# EAGLE library part CY8C4245 (library juliano)
PSoC® Programmable System-on-Chip TM M8C Processor Speeds up to 24 MHz Source: http://www.cypress.com .. CY8C4245AXI-483
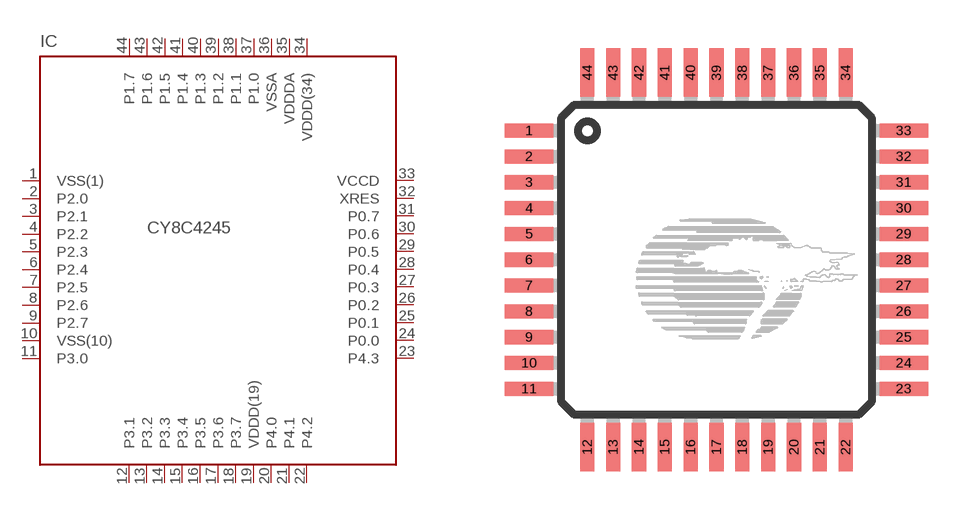
[diagram p1: symbol with the pads of TQFP44; footprint TQFP44]

Designator prefix IC

## CY8C4245T (OC_FARNELL: unknown; OC_NEWARK: unknown)  [TQFP44]
1  VSS(1)
2  P2.0
3  P2.1
4  P2.2  pwr
5  P2.3
6  P2.4
7  P2.5
8  P2.6  pwr
9  P2.7
10  VSS(10)
11  P3.0
12  P3.1
13  P3.2
14  P3.3
15  P3.4
16  P3.5
17  P3.6  pwr
18  P3.7
19  VDDD(19)
20  P4.0
21  P4.1
22  P4.2
23  P4.3
24  P0.0
25  P0.1
26  P0.2  in
27  P0.3
28  P0.4
29  P0.5
30  P0.6  pwr
31  P0.7
32  XRES
33  VCCD
34  VDDD(34)
35  VDDDA
36  VSSA
37  P1.0
38  P1.1
39  P1.2  pwr
40  P1.3
41  P1.4
42  P1.5
43  P1.6
44  P1.7

## Footprint TQFP44 (pad centres in mm)
44-Pin TQFP Source: http://www.cypress.com .. CY8C213452.pdf
smd 1.5 x 0.44: 1 -5.8,4; 2 -5.8,3.2; 3 -5.8,2.4; 4 -5.8,1.6; 5 -5.8,0.8; 6 -5.8,0; 7 -5.8,-0.8; 8 -5.8,-1.6; 9 -5.8,-2.4; 10 -5.8,-3.2; 11 -5.8,-4; 23 5.8,-4; 24 5.8,-3.2; 25 5.8,-2.4; 26 5.8,-1.6; 27 5.8,-0.8; 28 5.8,0; 29 5.8,0.8; 30 5.8,1.6; 31 5.8,2.4; 32 5.8,3.2; 33 5.8,4
smd 0.44 x 1.5: 12 -4,-5.8; 13 -3.2,-5.8; 14 -2.4,-5.8; 15 -1.6,-5.8; 16 -0.8,-5.8; 17 0,-5.8; 18 0.8,-5.8; 19 1.6,-5.8; 20 2.4,-5.8; 21 3.2,-5.8; 22 4,-5.8; 34 4,5.8; 35 3.2,5.8; 36 2.4,5.8; 37 1.6,5.8; 38 0.8,5.8; 39 0,5.8; 40 -0.8,5.8; 41 -1.6,5.8; 42 -2.4,5.8; 43 -3.2,5.8; 44 -4,5.8